# Altium schematic symbol library WE-TFC.SchLib: 16 symbols
Pins are listed as number, name and electrical type; pins without a type are passive.

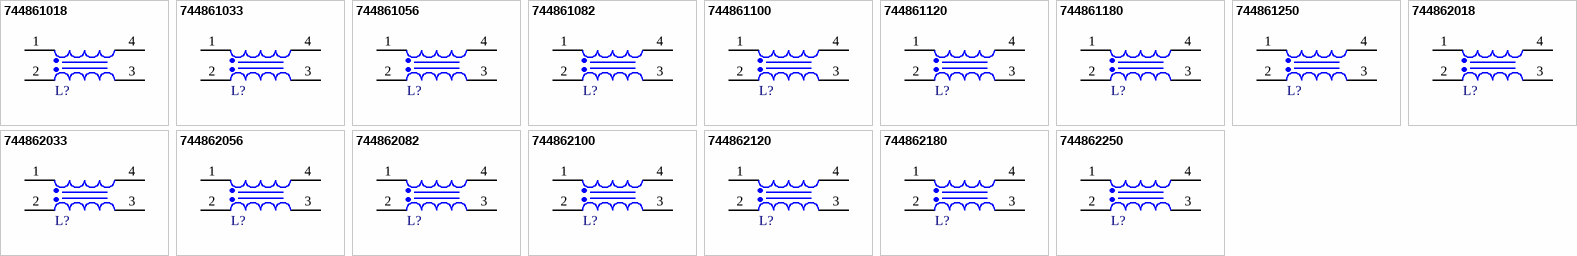
[diagram p0: symbols 744861018 to 744862250]

## 744861018
designator L?, comment 1.8mH  (value not drawn)
WE-TFC THT Common Mode Power Line Choke, UU9.8H, 1.8mH, 1A, 0.31Ω; Manufacturer Part Number: 744861018; Manufacturer: Wurth Elektronik; Insulation Test Voltage (AC): 2500V; Material: MnZn; Rated Voltage (AC): 300V; ComponentLink1Description: Manufacturer Link; ComponentLink1URL: https://www.we-online.com/redexpert/article/744861018?ad; ComponentLink2Description: Datasheet; ComponentLink2URL: https://www.we-online.com/redexpert/spec/744861018?ad; Category: Common Mode Chokes; Match Code: WE-TFC; Mount: Through Hole; Operating Temperature Max: 125°C; Operating Temperature Min: -40°C; Packaging: Tray; Case/Size Code: UU9.8H; Length: 17mm; Width: 15.5mm; Height: 12.5mm; DC Resistance Max: 0.31Ω; Inductance: 1.8mH; Rated Current: 1A
footprint WE-TFC_UU9.8H
pins: 1, 2, 3, 4

## 744861033
designator L?, comment 3.3mH  (value not drawn)
WE-TFC THT Common Mode Power Line Choke, UU9.8H, 3.3mH, 0.8A, 0.51Ω; Manufacturer Part Number: 744861033; Manufacturer: Wurth Elektronik; Insulation Test Voltage (AC): 2500V; Material: MnZn; Rated Voltage (AC): 300V; ComponentLink1Description: Manufacturer Link; ComponentLink1URL: https://www.we-online.com/redexpert/article/744861033?ad; ComponentLink2Description: Datasheet; ComponentLink2URL: https://www.we-online.com/redexpert/spec/744861033?ad; Category: Common Mode Chokes; Match Code: WE-TFC; Mount: Through Hole; Operating Temperature Max: 125°C; Operating Temperature Min: -40°C; Packaging: Tray; Case/Size Code: UU9.8H; Length: 17mm; Width: 15.5mm; Height: 12.5mm; DC Resistance Max: 0.51Ω; Inductance: 3.3mH; Rated Current: 0.8A
footprint WE-TFC_UU9.8H
pins: 1, 2, 3, 4

## 744861056
designator L?, comment 5.6mH  (value not drawn)
WE-TFC THT Common Mode Power Line Choke, UU9.8H, 5.6mH, 0.6A, 0.83Ω; Manufacturer Part Number: 744861056; Manufacturer: Wurth Elektronik; Insulation Test Voltage (AC): 2500V; Material: MnZn; Rated Voltage (AC): 300V; ComponentLink1Description: Manufacturer Link; ComponentLink1URL: https://www.we-online.com/redexpert/article/744861056?ad; ComponentLink2Description: Datasheet; ComponentLink2URL: https://www.we-online.com/redexpert/spec/744861056?ad; Category: Common Mode Chokes; Match Code: WE-TFC; Mount: Through Hole; Operating Temperature Max: 125°C; Operating Temperature Min: -40°C; Packaging: Tray; Case/Size Code: UU9.8H; Length: 17mm; Width: 15.5mm; Height: 12.5mm; DC Resistance Max: 0.83Ω; Inductance: 5.6mH; Rated Current: 0.6A
footprint WE-TFC_UU9.8H
pins: 1, 2, 3, 4

## 744861082
designator L?, comment 8.2mH  (value not drawn)
WE-TFC THT Common Mode Power Line Choke, UU9.8H, 8.2mH, 0.5A, 1.3Ω; Manufacturer Part Number: 744861082; Manufacturer: Wurth Elektronik; Insulation Test Voltage (AC): 2500V; Material: MnZn; Rated Voltage (AC): 300V; ComponentLink1Description: Manufacturer Link; ComponentLink1URL: https://www.we-online.com/redexpert/article/744861082?ad; ComponentLink2Description: Datasheet; ComponentLink2URL: https://www.we-online.com/redexpert/spec/744861082?ad; Category: Common Mode Chokes; Match Code: WE-TFC; Mount: Through Hole; Operating Temperature Max: 125°C; Operating Temperature Min: -40°C; Packaging: Tray; Case/Size Code: UU9.8H; Length: 17mm; Width: 15.5mm; Height: 12.5mm; DC Resistance Max: 1.3Ω; Inductance: 8.2mH; Rated Current: 0.5A
footprint WE-TFC_UU9.8H
pins: 1, 2, 3, 4

## 744861100
designator L?, comment 10mH  (value not drawn)
WE-TFC THT Common Mode Power Line Choke, UU9.8H, 10mH, 0.45A, 1.65Ω; Manufacturer Part Number: 744861100; Manufacturer: Wurth Elektronik; Insulation Test Voltage (AC): 2500V; Material: MnZn; Rated Voltage (AC): 300V; ComponentLink1Description: Manufacturer Link; ComponentLink1URL: https://www.we-online.com/redexpert/article/744861100?ad; ComponentLink2Description: Datasheet; ComponentLink2URL: https://www.we-online.com/redexpert/spec/744861100?ad; Category: Common Mode Chokes; Match Code: WE-TFC; Mount: Through Hole; Operating Temperature Max: 125°C; Operating Temperature Min: -40°C; Packaging: Tray; Case/Size Code: UU9.8H; Length: 17mm; Width: 15.5mm; Height: 12.5mm; DC Resistance Max: 1.65Ω; Inductance: 10mH; Rated Current: 0.45A
footprint WE-TFC_UU9.8H
pins: 1, 2, 3, 4

## 744861120
designator L?, comment 12mH  (value not drawn)
WE-TFC THT Common Mode Power Line Choke, UU9.8H, 12mH, 0.4A, 2Ω; Manufacturer Part Number: 744861120; Manufacturer: Wurth Elektronik; Insulation Test Voltage (AC): 2500V; Material: MnZn; Rated Voltage (AC): 300V; ComponentLink1Description: Manufacturer Link; ComponentLink1URL: https://www.we-online.com/redexpert/article/744861120?ad; ComponentLink2Description: Datasheet; ComponentLink2URL: https://www.we-online.com/redexpert/spec/744861120?ad; Category: Common Mode Chokes; Match Code: WE-TFC; Mount: Through Hole; Operating Temperature Max: 125°C; Operating Temperature Min: -40°C; Packaging: Tray; Case/Size Code: UU9.8H; Length: 17mm; Width: 15.5mm; Height: 12.5mm; DC Resistance Max: 2Ω; Inductance: 12mH; Rated Current: 0.4A
footprint WE-TFC_UU9.8H
pins: 1, 2, 3, 4

## 744861180
designator L?, comment 18mH  (value not drawn)
WE-TFC THT Common Mode Power Line Choke, UU9.8H, 18mH, 0.3A, 3.1Ω; Manufacturer Part Number: 744861180; Manufacturer: Wurth Elektronik; Insulation Test Voltage (AC): 2500V; Material: MnZn; Rated Voltage (AC): 300V; ComponentLink1Description: Manufacturer Link; ComponentLink1URL: https://www.we-online.com/redexpert/article/744861180?ad; ComponentLink2Description: Datasheet; ComponentLink2URL: https://www.we-online.com/redexpert/spec/744861180?ad; Category: Common Mode Chokes; Match Code: WE-TFC; Mount: Through Hole; Operating Temperature Max: 125°C; Operating Temperature Min: -40°C; Packaging: Tray; Case/Size Code: UU9.8H; Length: 17mm; Width: 15.5mm; Height: 12.5mm; DC Resistance Max: 3.1Ω; Inductance: 18mH; Rated Current: 0.3A
footprint WE-TFC_UU9.8H
pins: 1, 2, 3, 4

## 744861250
designator L?, comment 25mH  (value not drawn)
WE-TFC THT Common Mode Power Line Choke, UU9.8H, 25mH, 0.25A, 3.6Ω; Manufacturer Part Number: 744861250; Manufacturer: Wurth Elektronik; Insulation Test Voltage (AC): 2500V; Material: MnZn; Rated Voltage (AC): 300V; ComponentLink1Description: Manufacturer Link; ComponentLink1URL: https://www.we-online.com/redexpert/article/744861250?ad; ComponentLink2Description: Datasheet; ComponentLink2URL: https://www.we-online.com/redexpert/spec/744861250?ad; Category: Common Mode Chokes; Match Code: WE-TFC; Mount: Through Hole; Operating Temperature Max: 125°C; Operating Temperature Min: -40°C; Packaging: Tray; Case/Size Code: UU9.8H; Length: 17mm; Width: 15.5mm; Height: 12.5mm; DC Resistance Max: 3.6Ω; Inductance: 25mH; Rated Current: 0.25A
footprint WE-TFC_UU9.8H
pins: 1, 2, 3, 4

## 744862018
designator L?, comment 1.8mH  (value not drawn)
WE-TFC THT Common Mode Power Line Choke, UU9.8V, 1.8mH, 1A, 0.31Ω; Manufacturer Part Number: 744862018; Manufacturer: Wurth Elektronik; Insulation Test Voltage (AC): 2500V; Material: MnZn; Rated Voltage (AC): 300V; ComponentLink1Description: Manufacturer Link; ComponentLink1URL: https://www.we-online.com/redexpert/article/744862018?ad; ComponentLink2Description: Datasheet; ComponentLink2URL: https://www.we-online.com/redexpert/spec/744862018?ad; Category: Common Mode Chokes; Match Code: WE-TFC; Mount: Through Hole; Operating Temperature Max: 125°C; Operating Temperature Min: -40°C; Packaging: Tray; Case/Size Code: UU9.8V; Length: 17mm; Width: 11.5mm; Height: 17mm; DC Resistance Max: 0.31Ω; Inductance: 1.8mH; Rated Current: 1A
footprint WE-TFC_UU9.8V
pins: 1, 2, 3, 4

## 744862033
designator L?, comment 3.3mH  (value not drawn)
WE-TFC THT Common Mode Power Line Choke, UU9.8V, 3.3mH, 0.8A, 0.51Ω; Manufacturer Part Number: 744862033; Manufacturer: Wurth Elektronik; Insulation Test Voltage (AC): 2500V; Material: MnZn; Rated Voltage (AC): 300V; ComponentLink1Description: Manufacturer Link; ComponentLink1URL: https://www.we-online.com/redexpert/article/744862033?ad; ComponentLink2Description: Datasheet; ComponentLink2URL: https://www.we-online.com/redexpert/spec/744862033?ad; Category: Common Mode Chokes; Match Code: WE-TFC; Mount: Through Hole; Operating Temperature Max: 125°C; Operating Temperature Min: -40°C; Packaging: Tray; Case/Size Code: UU9.8V; Length: 17mm; Width: 11.5mm; Height: 17mm; DC Resistance Max: 0.51Ω; Inductance: 3.3mH; Rated Current: 0.8A
footprint WE-TFC_UU9.8V
pins: 1, 2, 3, 4

## 744862056
designator L?, comment 5.6mH  (value not drawn)
WE-TFC THT Common Mode Power Line Choke, UU9.8V, 5.6mH, 0.6A, 0.83Ω; Manufacturer Part Number: 744862056; Manufacturer: Wurth Elektronik; Insulation Test Voltage (AC): 2500V; Material: MnZn; Rated Voltage (AC): 300V; ComponentLink1Description: Manufacturer Link; ComponentLink1URL: https://www.we-online.com/redexpert/article/744862056?ad; ComponentLink2Description: Datasheet; ComponentLink2URL: https://www.we-online.com/redexpert/spec/744862056?ad; Category: Common Mode Chokes; Match Code: WE-TFC; Mount: Through Hole; Operating Temperature Max: 125°C; Operating Temperature Min: -40°C; Packaging: Tray; Case/Size Code: UU9.8V; Length: 17mm; Width: 11.5mm; Height: 17mm; DC Resistance Max: 0.83Ω; Inductance: 5.6mH; Rated Current: 0.6A
footprint WE-TFC_UU9.8V
pins: 1, 2, 3, 4

## 744862082
designator L?, comment 8.2mH  (value not drawn)
WE-TFC THT Common Mode Power Line Choke, UU9.8V, 8.2mH, 0.5A, 1.3Ω; Manufacturer Part Number: 744862082; Manufacturer: Wurth Elektronik; Insulation Test Voltage (AC): 2500V; Material: MnZn; Rated Voltage (AC): 300V; ComponentLink1Description: Manufacturer Link; ComponentLink1URL: https://www.we-online.com/redexpert/article/744862082?ad; ComponentLink2Description: Datasheet; ComponentLink2URL: https://www.we-online.com/redexpert/spec/744862082?ad; Category: Common Mode Chokes; Match Code: WE-TFC; Mount: Through Hole; Operating Temperature Max: 125°C; Operating Temperature Min: -40°C; Packaging: Tray; Case/Size Code: UU9.8V; Length: 17mm; Width: 11.5mm; Height: 17mm; DC Resistance Max: 1.3Ω; Inductance: 8.2mH; Rated Current: 0.5A
footprint WE-TFC_UU9.8V
pins: 1, 2, 3, 4

## 744862100
designator L?, comment 10mH  (value not drawn)
WE-TFC THT Common Mode Power Line Choke, UU9.8V, 10mH, 0.45A, 1.65Ω; Manufacturer Part Number: 744862100; Manufacturer: Wurth Elektronik; Insulation Test Voltage (AC): 2500V; Material: MnZn; Rated Voltage (AC): 300V; ComponentLink1Description: Manufacturer Link; ComponentLink1URL: https://www.we-online.com/redexpert/article/744862100?ad; ComponentLink2Description: Datasheet; ComponentLink2URL: https://www.we-online.com/redexpert/spec/744862100?ad; Category: Common Mode Chokes; Match Code: WE-TFC; Mount: Through Hole; Operating Temperature Max: 125°C; Operating Temperature Min: -40°C; Packaging: Tray; Case/Size Code: UU9.8V; Length: 17mm; Width: 11.5mm; Height: 17mm; DC Resistance Max: 1.65Ω; Inductance: 10mH; Rated Current: 0.45A
footprint WE-TFC_UU9.8V
pins: 1, 2, 3, 4

## 744862120
designator L?, comment 12mH  (value not drawn)
WE-TFC THT Common Mode Power Line Choke, UU9.8V, 12mH, 0.4A, 2Ω; Manufacturer Part Number: 744862120; Manufacturer: Wurth Elektronik; Insulation Test Voltage (AC): 2500V; Material: MnZn; Rated Voltage (AC): 300V; ComponentLink1Description: Manufacturer Link; ComponentLink1URL: https://www.we-online.com/redexpert/article/744862120?ad; ComponentLink2Description: Datasheet; ComponentLink2URL: https://www.we-online.com/redexpert/spec/744862120?ad; Category: Common Mode Chokes; Match Code: WE-TFC; Mount: Through Hole; Operating Temperature Max: 125°C; Operating Temperature Min: -40°C; Packaging: Tray; Case/Size Code: UU9.8V; Length: 17mm; Width: 11.5mm; Height: 17mm; DC Resistance Max: 2Ω; Inductance: 12mH; Rated Current: 0.4A
footprint WE-TFC_UU9.8V
pins: 1, 2, 3, 4

## 744862180
designator L?, comment 18mH  (value not drawn)
WE-TFC THT Common Mode Power Line Choke, UU9.8V, 18mH, 0.3A, 3.1Ω; Manufacturer Part Number: 744862180; Manufacturer: Wurth Elektronik; Insulation Test Voltage (AC): 2500V; Material: MnZn; Rated Voltage (AC): 300V; ComponentLink1Description: Manufacturer Link; ComponentLink1URL: https://www.we-online.com/redexpert/article/744862180?ad; ComponentLink2Description: Datasheet; ComponentLink2URL: https://www.we-online.com/redexpert/spec/744862180?ad; Category: Common Mode Chokes; Match Code: WE-TFC; Mount: Through Hole; Operating Temperature Max: 125°C; Operating Temperature Min: -40°C; Packaging: Tray; Case/Size Code: UU9.8V; Length: 17mm; Width: 11.5mm; Height: 17mm; DC Resistance Max: 3.1Ω; Inductance: 18mH; Rated Current: 0.3A
footprint WE-TFC_UU9.8V
pins: 1, 2, 3, 4

## 744862250
designator L?, comment 25mH  (value not drawn)
WE-TFC THT Common Mode Power Line Choke, UU9.8V, 25mH, 0.25A, 3.6Ω; Manufacturer Part Number: 744862250; Manufacturer: Wurth Elektronik; Insulation Test Voltage (AC): 2500V; Material: MnZn; Rated Voltage (AC): 300V; ComponentLink1Description: Manufacturer Link; ComponentLink1URL: https://www.we-online.com/redexpert/article/744862250?ad; ComponentLink2Description: Datasheet; ComponentLink2URL: https://www.we-online.com/redexpert/spec/744862250?ad; Category: Common Mode Chokes; Match Code: WE-TFC; Mount: Through Hole; Operating Temperature Max: 125°C; Operating Temperature Min: -40°C; Packaging: Tray; Case/Size Code: UU9.8V; Length: 17mm; Width: 11.5mm; Height: 17mm; DC Resistance Max: 3.6Ω; Inductance: 25mH; Rated Current: 0.25A
footprint WE-TFC_UU9.8V
pins: 1, 2, 3, 4